# EAGLE library part STM32L010F4P6 (library STM32L010F4P6)
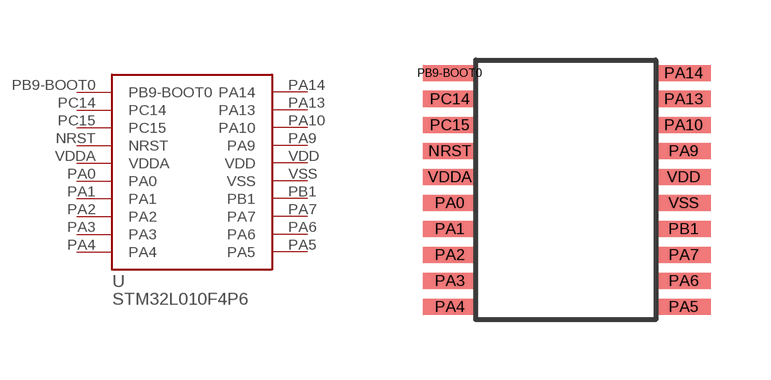
[diagram p0: symbol with the pads of STM32L010F4P6; footprint STM32L010F4P6]

Designator prefix U

## STM32L010F4P6  [STM32L010F4P6]
NRST  NRST
PA0  PA0
PA1  PA1
PA2  PA2
PA3  PA3
PA4  PA4
PA5  PA5
PA6  PA6
PA7  PA7
PA9  PA9
PA10  PA10
PA13  PA13
PA14  PA14
PB1  PB1
PB9-BOOT0  PB9-BOOT0
PC14  PC14
PC15  PC15
VDD  VDD  pwr
VDDA  VDDA  pwr
VSS  VSS  pwr

## Footprint STM32L010F4P6 (pad centres in mm)
smd 1.35 x 0.4: NRST -0.65,4.225; PA0 -0.65,2.925; PA1 -0.65,2.275; PA2 -0.65,1.625; PA3 -0.65,0.975; PA4 -0.65,0.325; PA5 5.2,0.325; PA6 5.2,0.975; PA7 5.2,1.625; PA9 5.2,4.225; PA10 5.2,4.875; PA13 5.2,5.525; PA14 5.2,6.175; PB1 5.2,2.275; PB9-BOOT0 -0.65,6.175; PC14 -0.65,5.525; PC15 -0.65,4.875; VDD 5.2,3.575; VDDA -0.65,3.575; VSS 5.2,2.925